# EAGLE library part DISPLAYTECH-SDT033TFT (library Pygmy)
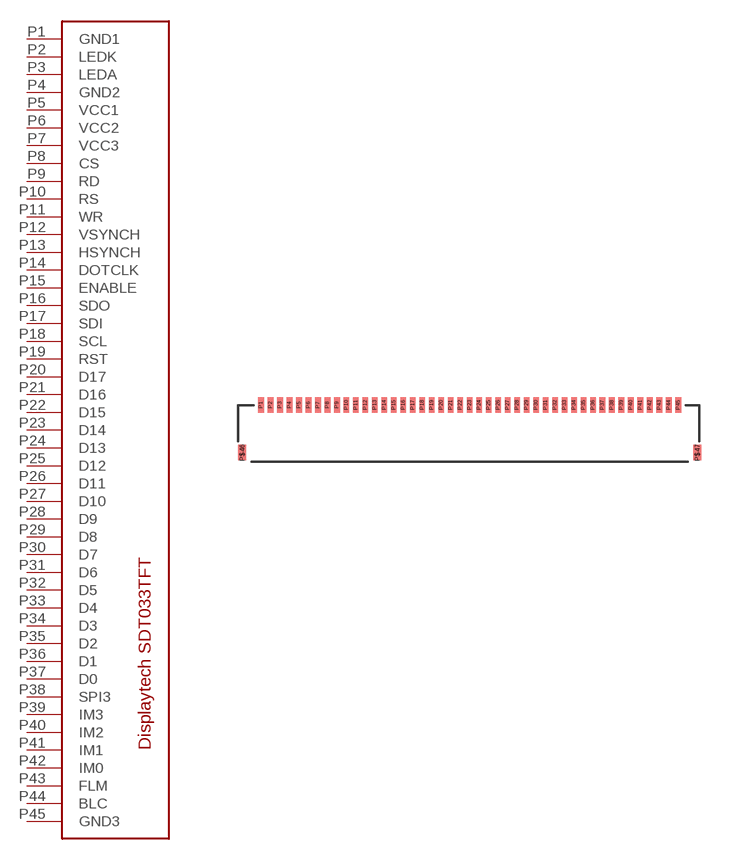
[diagram p28: symbol with the pads of HIROSE-FFC-FH19SC-45; footprint HIROSE-FFC-FH19SC-45]

Designator prefix -

## DISPLAYTECH-SDT033TFTH  [HIROSE-FFC-FH19SC-45]
P1  GND1
P2  LEDK
P3  LEDA
P4  GND2
P5  VCC1
P6  VCC2
P7  VCC3
P8  CS
P9  RD
P10  RS
P11  WR
P12  VSYNCH
P13  HSYNCH
P14  DOTCLK
P15  ENABLE
P16  SDO
P17  SDI
P18  SCL
P19  RST
P20  D17
P21  D16
P22  D15
P23  D14
P24  D13
P25  D12
P26  D11
P27  D10
P28  D9
P29  D8
P30  D7
P31  D6
P32  D5
P33  D4
P34  D3
P35  D2
P36  D1
P37  D0
P38  SPI3
P39  IM3
P40  IM2
P41  IM1
P42  IM0
P43  FLM
P44  BLC
P45  GND3

## Footprint HIROSE-FFC-FH19SC-45 (pad centres in mm)
smd 0.3 x 0.8: P1 -11,0; P2 -10.5,0; P3 -10,0; P4 -9.5,0; P5 -9,0; P6 -8.5,0; P7 -8,0; P8 -7.5,0; P9 -7,0; P10 -6.5,0; P11 -6,0; P12 -5.5,0; P13 -5,0; P14 -4.5,0; P15 -4,0; P16 -3.5,0; P17 -3,0; P18 -2.5,0; P19 -2,0; P20 -1.5,0; P21 -1,0; P22 -0.5,0; P23 0,0; P24 0.5,0; P25 1,0; P26 1.5,0; P27 2,0; P28 2.5,0; P29 3,0; P30 3.5,0; P31 4,0; P32 4.5,0; P33 5,0; P34 5.5,0; P35 6,0; P36 6.5,0; P37 7,0; P38 7.5,0; P39 8,0; P40 8.5,0; P41 9,0; P42 9.5,0; P43 10,0; P44 10.5,0; P45 11,0
smd 0.4 x 0.8: P$46 -12,-2.5; P$47 12,-2.5